# Altium footprint library AMPHENOL_12401610E4#2A.PcbLib: 1 footprints
Each footprint in its own frame and in the unit in brackets; x right, y up, seen from the top. Pads: shape width x height; smd on the part's side, far side on the other; paste and mask are expansions set on the pad; w line width, h text height; cw(c..) or ccw(c..) is an arc to the next point about the centre after c.
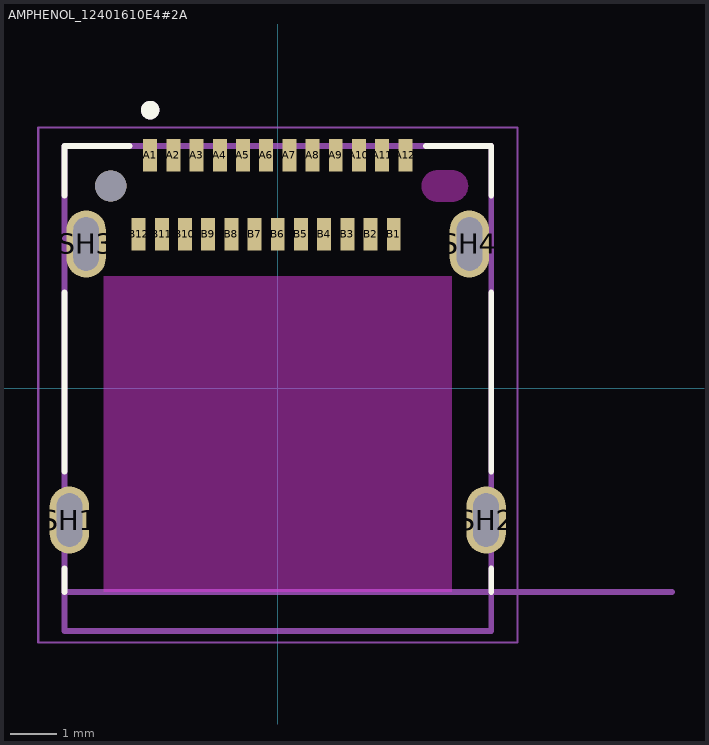
[diagram p0: the footprint, top view; thin cyan lines are the x and y axes]

## AMPHENOL_12401610E4#2A [mm]
height 3.43
pads (29):
  rect 0.3x0.7 smd paste+0 mask+0.05: A1(-2.75,5.025) A2(-2.25,5.025) A3(-1.75,5.025) A4(-1.25,5.025) A5(-0.75,5.025) A6(-0.25,5.025) A7(0.25,5.025) A8(0.75,5.025) A9(1.25,5.025) A10(1.75,5.025) A11(2.25,5.025) A12(2.75,5.025) B1(2.5,3.325) B2(2,3.325) B3(1.5,3.325) B4(1,3.325) B5(0.5,3.325) B6(0,3.325) B7(-0.5,3.325) B8(-1,3.325) B9(-1.5,3.325) B10(-2,3.325) B11(-2.5,3.325) B12(-3,3.325)
  oval 0.85x1.45 hole 0.55 slot 1.15 at 90 deg mask+0.102: SH1(-4.49,-2.835) SH2(4.49,-2.835) SH3(-4.13,3.115) SH4(4.13,3.115)
  round 0.675 hole 0.675 unplated mask+0: ""(-3.6,4.365)
Top Overlay:
  circle w0.2: c-2.75,6 r0.1
  lines w0.127: -4.6,-4.385 -4.6,-3.88 ; -4.6,-1.79 -4.6,2.07 ; -4.6,4.16 -4.6,5.225 -3.195,5.225 ; 3.195,5.225 4.6,5.225 4.6,4.16 ; 4.6,-4.385 4.6,-3.88 ; 4.6,-1.79 4.6,2.07
Top Solder:
  region: 3.785,4.802 3.808,4.8 3.831,4.797 3.853,4.793 3.876,4.788 3.898,4.781 3.919,4.773 3.94,4.765 3.961,4.755 3.981,4.744 4.001,4.732 4.02,4.719 4.038,4.705 4.055,4.69 4.072,4.674 4.088,4.658 4.103,4.64 4.116,4.622 4.129,4.603 4.141,4.584 4.152,4.564 4.162,4.543 4.171,4.522 4.179,4.5 4.185,4.478 4.19,4.456 4.195,4.433 4.198,4.411 4.199,4.388 4.2,4.365 4.199,4.342 4.198,4.319 4.195,4.297 4.19,4.274 4.185,4.252 4.179,4.23 4.171,4.208 4.162,4.187 4.152,4.166 4.141,4.146 4.129,4.127 4.116,4.108 4.103,4.09 4.088,4.072 4.072,4.056 4.055,4.04 4.038,4.025 4.02,4.011 4.001,3.998 3.981,3.986 3.961,3.975 3.94,3.965 3.919,3.957 3.898,3.949 3.876,3.942 3.853,3.937 3.831,3.933 3.808,3.93 3.785,3.928 3.415,3.928 3.392,3.93 3.369,3.933 3.347,3.937 3.324,3.942 3.302,3.949 3.281,3.957 3.26,3.965 3.239,3.975 3.219,3.986 3.199,3.998 3.18,4.011 3.162,4.025 3.145,4.04 3.128,4.056 3.112,4.072 3.097,4.09 3.084,4.108 3.071,4.127 3.059,4.146 3.048,4.166 3.038,4.187 3.029,4.208 3.021,4.23 3.015,4.252 3.01,4.274 3.005,4.297 3.002,4.319 3.001,4.342 3,4.365 3.001,4.388 3.002,4.411 3.005,4.433 3.01,4.456 3.015,4.478 3.021,4.5 3.029,4.522 3.038,4.543 3.048,4.564 3.059,4.584 3.071,4.603 3.084,4.622 3.097,4.64 3.112,4.658 3.128,4.674 3.145,4.69 3.162,4.705 3.18,4.719 3.199,4.732 3.219,4.744 3.239,4.755 3.26,4.765 3.281,4.773 3.302,4.781 3.324,4.788 3.347,4.793 3.369,4.797 3.392,4.8 3.415,4.802 3.438,4.803 3.437,4.802 3.763,4.803
Bottom Solder:
  region: 3.785,4.802 3.808,4.8 3.831,4.797 3.853,4.793 3.876,4.788 3.898,4.781 3.919,4.773 3.94,4.765 3.961,4.755 3.981,4.744 4.001,4.732 4.02,4.719 4.038,4.705 4.055,4.69 4.072,4.674 4.088,4.658 4.103,4.64 4.116,4.622 4.129,4.603 4.141,4.584 4.152,4.564 4.162,4.543 4.171,4.522 4.179,4.5 4.185,4.478 4.19,4.456 4.195,4.433 4.198,4.411 4.199,4.388 4.2,4.365 4.199,4.342 4.198,4.319 4.195,4.297 4.19,4.274 4.185,4.252 4.179,4.23 4.171,4.208 4.162,4.187 4.152,4.166 4.141,4.146 4.129,4.127 4.116,4.108 4.103,4.09 4.088,4.072 4.072,4.056 4.055,4.04 4.038,4.025 4.02,4.011 4.001,3.998 3.981,3.986 3.961,3.975 3.94,3.965 3.919,3.957 3.898,3.949 3.876,3.942 3.853,3.937 3.831,3.933 3.808,3.93 3.785,3.928 3.415,3.928 3.392,3.93 3.369,3.933 3.347,3.937 3.324,3.942 3.302,3.949 3.281,3.957 3.26,3.965 3.239,3.975 3.219,3.986 3.199,3.998 3.18,4.011 3.162,4.025 3.145,4.04 3.128,4.056 3.112,4.072 3.097,4.09 3.084,4.108 3.071,4.127 3.059,4.146 3.048,4.166 3.038,4.187 3.029,4.208 3.021,4.23 3.015,4.252 3.01,4.274 3.005,4.297 3.002,4.319 3.001,4.342 3,4.365 3.001,4.388 3.002,4.411 3.005,4.433 3.01,4.456 3.015,4.478 3.021,4.5 3.029,4.522 3.038,4.543 3.048,4.564 3.059,4.584 3.071,4.603 3.084,4.622 3.097,4.64 3.112,4.658 3.128,4.674 3.145,4.69 3.162,4.705 3.18,4.719 3.199,4.732 3.219,4.744 3.239,4.755 3.26,4.765 3.281,4.773 3.302,4.781 3.324,4.788 3.347,4.793 3.369,4.797 3.392,4.8 3.415,4.802 3.438,4.803 3.762,4.802 3.763,4.803
Keep-Out Layer:
  board cut-out: 3.437,4.703 3.763,4.702 3.78,4.702 3.798,4.701 3.815,4.698 3.833,4.695 3.85,4.691 3.867,4.686 3.883,4.68 3.9,4.673 3.916,4.666 3.931,4.657 3.946,4.648 3.961,4.638 3.975,4.627 3.988,4.616 4.001,4.604 4.013,4.591 4.025,4.577 4.036,4.563 4.046,4.549 4.055,4.534 4.063,4.518 4.071,4.502 4.078,4.486 4.083,4.469 4.088,4.452 4.093,4.435 4.096,4.418 4.098,4.4 4.1,4.383 4.1,4.365 4.1,4.347 4.098,4.33 4.096,4.312 4.093,4.295 4.088,4.278 4.083,4.261 4.078,4.244 4.071,4.228 4.063,4.212 4.055,4.196 4.046,4.181 4.036,4.167 4.025,4.153 4.013,4.139 4.001,4.126 3.988,4.114 3.975,4.103 3.961,4.092 3.946,4.082 3.931,4.073 3.916,4.064 3.9,4.057 3.883,4.05 3.867,4.044 3.85,4.039 3.833,4.035 3.815,4.032 3.798,4.029 3.78,4.028 3.763,4.027 3.438,4.027 3.42,4.028 3.402,4.029 3.385,4.032 3.367,4.035 3.35,4.039 3.333,4.044 3.317,4.05 3.3,4.057 3.284,4.064 3.269,4.073 3.254,4.082 3.239,4.092 3.225,4.103 3.212,4.114 3.199,4.126 3.187,4.139 3.175,4.153 3.164,4.167 3.154,4.181 3.145,4.196 3.137,4.212 3.129,4.228 3.122,4.244 3.117,4.261 3.112,4.278 3.107,4.295 3.104,4.312 3.102,4.33 3.1,4.347 3.1,4.365 3.1,4.383 3.102,4.4 3.104,4.418 3.107,4.435 3.112,4.452 3.117,4.469 3.122,4.486 3.129,4.502 3.137,4.518 3.145,4.534 3.154,4.549 3.164,4.563 3.175,4.577 3.187,4.591 3.199,4.604 3.212,4.616 3.225,4.627 3.239,4.638 3.254,4.648 3.269,4.657 3.284,4.666 3.3,4.673 3.317,4.68 3.333,4.686 3.35,4.691 3.367,4.695 3.385,4.698 3.402,4.701 3.42,4.702 3.438,4.702
Keep-Out Layer:
  region: 3.75,-4.385 -3.75,-4.385 -3.75,2.415 3.75,2.415
Assembly Top:
  circle w0.2: c-2.75,6 r0.1
  lines w0.127: 8.5,-4.385 -4.6,-4.385 ; -4.6,-4.385 -4.6,-5.225 4.6,-5.225 4.6,5.225 -4.6,5.225 -4.6,-4.385
  text "PCB EDGE" at 5.25,-4 h1.02
Courtyard Top:
  lines w0.05: -5.165,-5.475 -5.165,5.625 5.165,5.625 5.165,-5.475 -5.165,-5.475
3D body "step_temp.STEP": height 3.44, standoff -0.76, extent -4.628,-5.25 4.572,5.25